# Altium integrated library B82145A1474J000.IntLib: 1 symbol
Pins are listed as number, name and electrical type; pins without a type are passive.

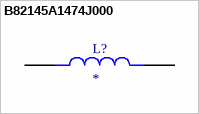
[diagram p0: symbol B82145A1474J000]

## B82145A1474J000
designator L?
470 ÂµH Unshielded Wirewound Inductor 510 mA 1.9Ohm Max Axial; MF: EPCOS; MP: B82145A1474J000; Price: None; Check_prices: https://www.snapeda.com/parts/B82145A1474J000/EPCOS/view-part/?ref=eda; Package: None; Purchase-URL: https://pricing.snapeda.com/search/part/B82145A1474J000/?ref=eda; Availability: In Stock; Value: *; SnapEDA_Link: https://www.snapeda.com/parts/B82145A1474J000/EPCOS/view-part/?ref=snap
footprint INDAD1680W80L1200D650
pins: 1, 2